# Altium footprint library C5182313.PcbLib: 1 footprints
Each footprint in its own frame and in the unit in brackets; x right, y up, seen from the top. Pads: shape width x height; smd on the part's side, far side on the other; paste and mask are expansions set on the pad; w line width, h text height; cw(c..) or ccw(c..) is an arc to the next point about the centre after c.
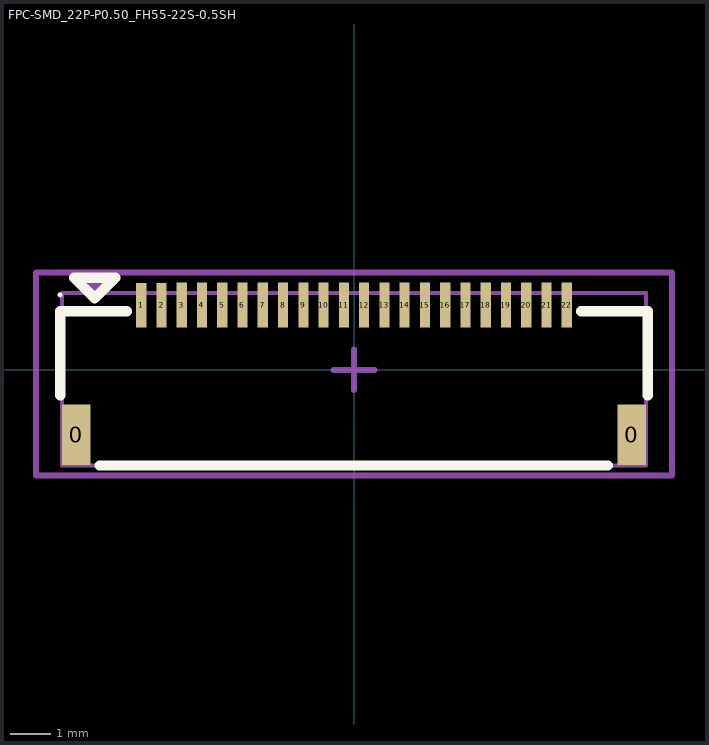
[diagram p0: the footprint, top view; thin cyan lines are the x and y axes]

## FPC-SMD_22P-P0.50_FH55-22S-0.5SH [mm] "Flip-Top -55?~+85? 22P 0.5mm 500mA 50V Gold Surface Mount, Right Angle Phosphor bronze SMD,P=0.5mm FFC, FPC (Flat Flexible) Connector Assemblies RoHS"
pads (24):
  rect 0.7x1.5 smd: 0(-6.85,-1.601) 0(6.85,-1.601)
  rect 0.25x1.1 smd: 1(-5.248,1.599) 2(-4.749,1.599) 3(-4.251,1.601) 4(-3.75,1.601) 5(-3.25,1.601) 6(-2.751,1.601) 7(-2.251,1.601) 8(-1.75,1.601) 9(-1.25,1.601) 10(-0.751,1.601) 11(-0.25,1.601) 12(0.25,1.601) 13(0.749,1.601) 14(1.25,1.601) 15(1.75,1.601) 16(2.25,1.601) 17(2.749,1.601) 18(3.25,1.601) 19(3.749,1.601) 20(4.249,1.601) 21(4.75,1.601) 22(5.25,1.601)
Top Overlay:
  circle w0.06: c-7.25,1.851 r0.03
  lines w0.254: -7.25,-0.626 -7.25,1.45 -5.603,1.45 ; -6.269,-2.36 6.269,-2.36 ; 5.606,1.45 7.25,1.45 7.25,-0.626 ; -6.908,2.271 -5.892,2.271 -6.4,1.763 -6.908,2.271
AOI:
  region: -6.4,1.763 -6.908,2.271 -5.892,2.271
  region: -6.925,-1.151 -6.775,-1.151 -6.775,-2.251 -6.925,-2.251
  region: 6.775,-1.151 6.925,-1.151 6.925,-2.251 6.775,-2.251
  region: 5.19,1.851 5.31,1.851 5.31,1.351 5.19,1.351
  region: 4.69,1.851 4.81,1.851 4.81,1.351 4.69,1.351
  region: 4.189,1.851 4.309,1.851 4.309,1.351 4.189,1.351
  region: 3.689,1.851 3.809,1.851 3.809,1.351 3.689,1.351
  region: 3.19,1.851 3.31,1.851 3.31,1.351 3.19,1.351
  region: 2.689,1.851 2.809,1.851 2.809,1.351 2.689,1.351
  region: 2.19,1.851 2.31,1.851 2.31,1.351 2.19,1.351
  region: 1.69,1.851 1.81,1.851 1.81,1.351 1.69,1.351
  region: 1.19,1.851 1.31,1.851 1.31,1.351 1.19,1.351
  region: 0.689,1.851 0.809,1.851 0.809,1.351 0.689,1.351
  region: 0.19,1.851 0.31,1.851 0.31,1.351 0.19,1.351
  region: -0.31,1.851 -0.19,1.851 -0.19,1.351 -0.31,1.351
  region: -0.811,1.851 -0.691,1.851 -0.691,1.351 -0.811,1.351
  region: -1.31,1.851 -1.19,1.851 -1.19,1.351 -1.31,1.351
  region: -1.81,1.851 -1.69,1.851 -1.69,1.351 -1.81,1.351
  region: -2.311,1.851 -2.191,1.851 -2.191,1.351 -2.311,1.351
  region: -2.811,1.851 -2.691,1.851 -2.691,1.351 -2.811,1.351
  region: -3.31,1.851 -3.19,1.851 -3.19,1.351 -3.31,1.351
  region: -3.81,1.851 -3.69,1.851 -3.69,1.351 -3.81,1.351
  region: -4.311,1.851 -4.191,1.851 -4.191,1.351 -4.311,1.351
  region: -4.809,1.849 -4.689,1.849 -4.689,1.349 -4.809,1.349
  region: -5.308,1.849 -5.188,1.849 -5.188,1.349 -5.308,1.349
Top 3D Body:
  lines w0.1: -7.205,-2.353 7.205,-2.353 7.205,1.897 -7.205,1.897 -7.205,-2.353
Top Courtyard:
  lines w0.15: -0.5,0 0.5,0 ; 0,-0.5 0,0.5 ; -7.85,-2.603 7.85,-2.603 7.85,2.401 -7.85,2.401 -7.85,-2.603
3D body "FPC-SMD_22P-P0.50_FH55-22S-0.5SH.step": height 0.03, standoff 0, extent -7.205,-2.353 7.205,1.897